# EAGLE library part ACCEL_ADXL345 (library Agent-DA7280-FeatherWing)
ADXL345 - Digital 3-Axis Accelerometer (I2C/SPI)
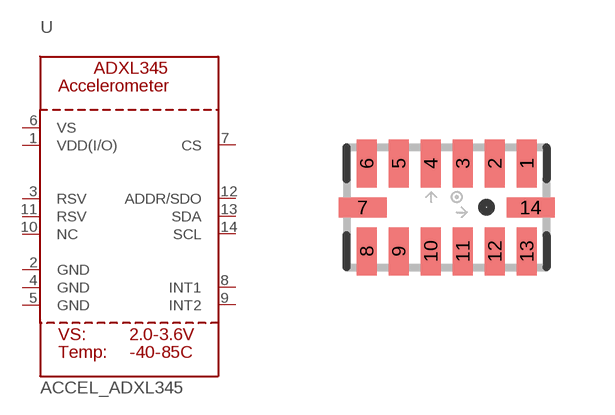
[diagram p0: symbol with the pads of LGA14; footprint LGA14]

Designator prefix U

## ACCEL_ADXL345  [LGA14]
1  VDD(I/O)
2  GND
3  RSV
4  GND
5  GND
6  VS
7  CS
8  INT1
9  INT2
10  NC
11  RSV
12  ADDR/SDO
13  SDA
14  SCL

## Footprint LGA14 (pad centres in mm)
smd 0.5 x 1.2: 1 2,1.1; 2 1.2,1.1; 3 0.4,1.1; 4 -0.4,1.1; 5 -1.2,1.1; 6 -2,1.1; 8 -2,-1.1; 9 -1.2,-1.1; 10 -0.4,-1.1; 11 0.4,-1.1; 12 1.2,-1.1; 13 2,-1.1
smd 1.2 x 0.5: 7 -2.1,0; 14 2.1,0